# EAGLE library part MCP25625-E_ML (library MCP25625-E_ML)
CAN Controller with Transceiver QFN28 Microchip MCP25625-E/ML, CAN Controller, 28-Pin QFN Source: Datasheet <http://docs-europe.electrocomponents.com/webdocs/137c/0900766b8137cddf.pdf>
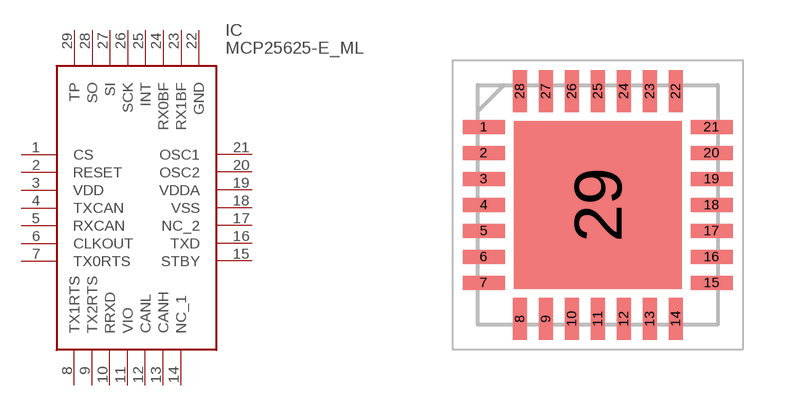
[diagram p0: symbol with the pads of QFN65P600X600X100-29N; footprint QFN65P600X600X100-29N]

Designator prefix IC

## MCP25625-E_ML (Allied_Number: 70431541; Allied_Price-Stock: http://www.alliedelec.com/microchip-technology-inc-mcp25625-e-ml/70431541/; Arrow_Part_Number: MCP25625-E/ML; Arrow_Price-Stock: https://www.arrow.com/en/products/mcp25625-eml/microchip-technology; Description: CAN Controller with Transceiver QFN28 Microchip MCP25625-E/ML, CAN Controller, 28-Pin QFN; Height: 1mm; Manufacturer_Name: Microchip; Manufacturer_Part_Number: MCP25625-E/ML; RS_Part_Number: 1654104; RS_Price-Stock: http://uk.rs-online.com/web/p/products/1654104)  [QFN65P600X600X100-29N]
1  CS  in
2  RESET
3  VDD  pwr
4  TXCAN
5  RXCAN
6  CLKOUT  out
7  TX0RTS
8  TX1RTS
9  TX2RTS
10  RRXD
11  VIO
12  CANL
13  CANH
14  NC_1
15  STBY
16  TXD
17  NC_2
18  VSS  pwr
19  VDDA  pwr
20  OSC2
21  OSC1
22  GND  pwr
23  RX1BF
24  RX0BF
25  INT  in
26  SCK
27  SI
28  SO
29  TP

## Footprint QFN65P600X600X100-29N (pad centres in mm)
ML QFN (6x6)
smd 1.05 x 0.35: 1 -2.85,1.95; 2 -2.85,1.3; 3 -2.85,0.65; 4 -2.85,0; 5 -2.85,-0.65; 6 -2.85,-1.3; 7 -2.85,-1.95; 15 2.85,-1.95; 16 2.85,-1.3; 17 2.85,-0.65; 18 2.85,0; 19 2.85,0.65; 20 2.85,1.3; 21 2.85,1.95
smd 0.35 x 1.05: 8 -1.95,-2.85; 9 -1.3,-2.85; 10 -0.65,-2.85; 11 0,-2.85; 12 0.65,-2.85; 13 1.3,-2.85; 14 1.95,-2.85; 22 1.95,2.85; 23 1.3,2.85; 24 0.65,2.85; 25 0,2.85; 26 -0.65,2.85; 27 -1.3,2.85; 28 -1.95,2.85
smd 4.2 x 4.2: 29 0,0